# EAGLE library part 690-004-660-023 (library con-usb)
USB TYPE B VERTICAL EDAC Inc.
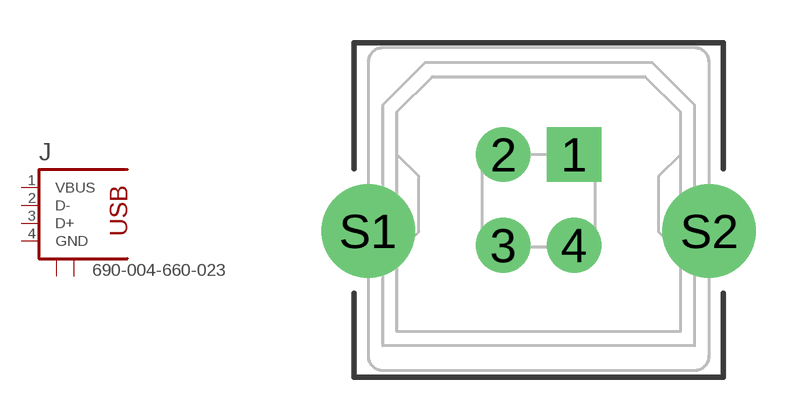
[diagram p11: symbol with the pads of 690-004-660-023; footprint 690-004-660-023]

Designator prefix J

## 690-004-660-023  [690-004-660-023]
1  VBUS  pas
2  D-  pas
3  D+  pas
4  GND  pas
S1  S1  pas
S2  S2  pas

## Footprint 690-004-660-023 (pad centres in mm)
USB TYPE B VERTICAL USB - B USB 2.0 Vertical Receptacle Connector 4 Position Through Hole EDAC Inc. 690-004-660-023 Datasheet <USB - B USB 2.0 Receptacle Connector 4 Position Through Hole>
drill 1.016 pad 1.93 square: 1 1.25,1.6
drill 1.016 pad 1.93: 2 -1.25,1.6; 3 -1.25,-1.6; 4 1.25,-1.6
drill 2.286: S1 -6.02,-1.1; S2 6.02,-1.1